# EAGLE library part ISO7241 (library wolfi)
High-Speed, Quad-ChannelDigital Isolators http://www.ti.com/product/ISO7241M?dcmp=dsproject&hqs=pf
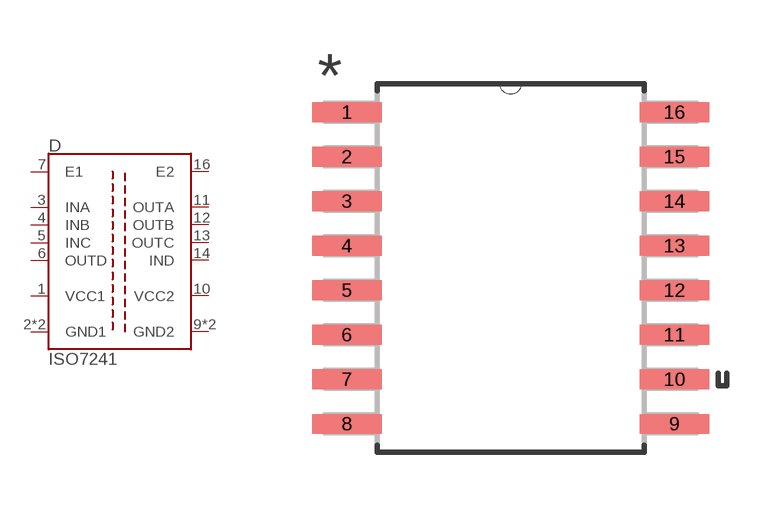
[diagram p29: symbol with the pads of SOIC127P1030X265-16N; footprint SOIC127P1030X265-16N]

Designator prefix D

## ISO7241MDWR  [SOIC127P1030X265-16N]
1  VCC1  pwr
2  GND1  pwr
3  INA  in
4  INB  in
5  INC  in
6  OUTD  out
7  E1  in
8  GND1  pwr
9  GND2  pwr
10  VCC2  pwr
11  OUTA  out
12  OUTB  out
13  OUTC  out
14  IND  in
15  GND2  pwr
16  E2  in

## Footprint SOIC127P1030X265-16N (pad centres in mm)
smd 1.981 x 0.559: 1 -4.674,4.445; 2 -4.674,3.175; 3 -4.674,1.905; 4 -4.674,0.635; 5 -4.674,-0.635; 6 -4.674,-1.905; 7 -4.674,-3.175; 8 -4.674,-4.445; 9 4.674,-4.445; 10 4.674,-3.175; 11 4.674,-1.905; 12 4.674,-0.635; 13 4.674,0.635; 14 4.674,1.905; 15 4.674,3.175; 16 4.674,4.445